# Altium footprint library RayPCB20210502.PcbLib: 231 footprints (part 15 of 15)
Each footprint in its own frame and in the unit in brackets; x right, y up, seen from the top. Pads: shape width x height; smd on the part's side, far side on the other; paste and mask are expansions set on the pad; w line width, h text height; cw(c..) or ccw(c..) is an arc to the next point about the centre after c.
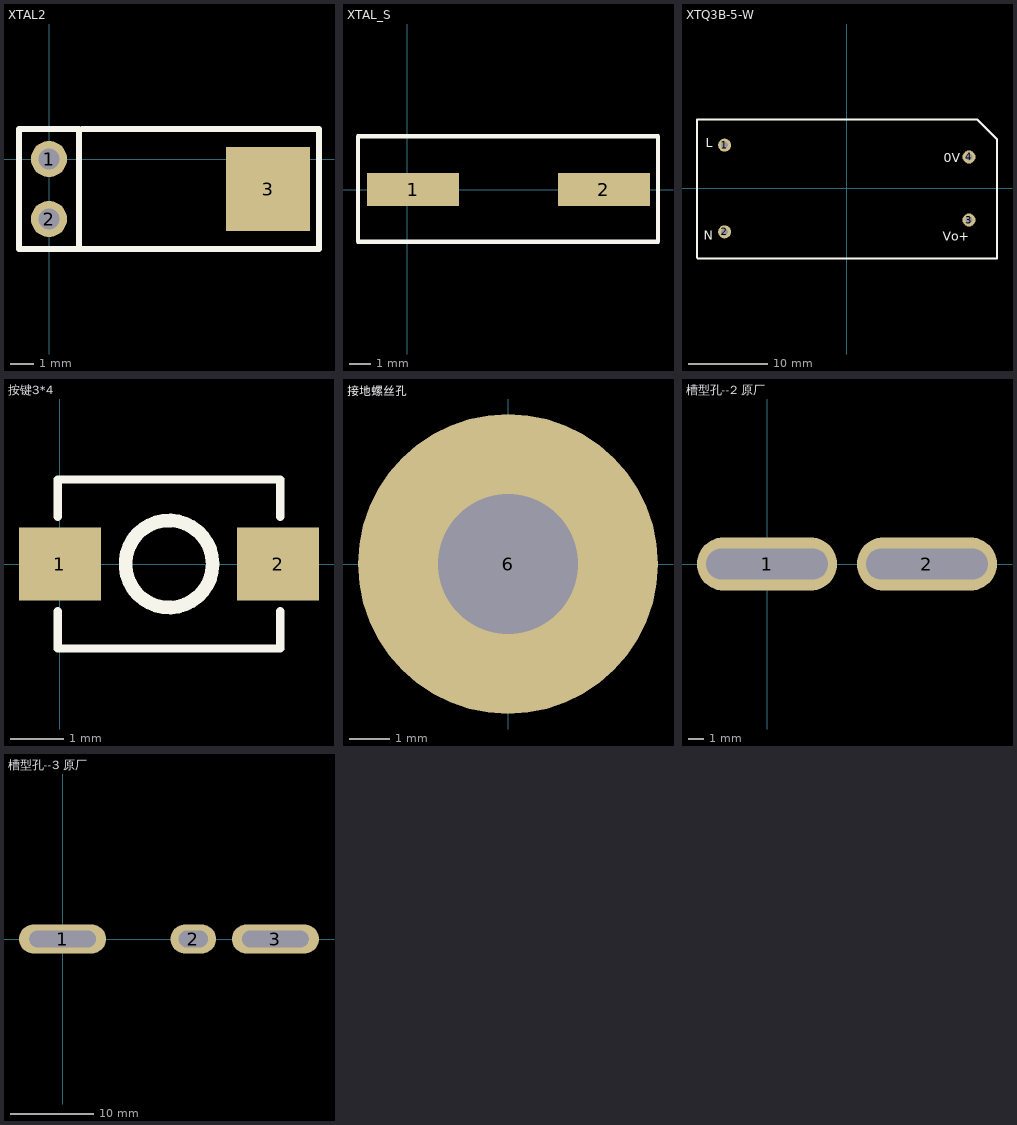
[diagram p14: the footprints below, top view; thin cyan lines are the x and y axes]

## XTAL2 [mil] "32.768KHZ CRYSTAL"
pads (3):
  round 60 hole 35: 1(0,0) 2(0,-100)
  rect 140x140 smd: 3(365,-50)
Top Overlay:
  lines w10: 55,50 450,50 450,-150 50,-150 ; 50,-150 -50,-150 -50,50 50,50 50,-150

## XTAL_S [mm]
pads (2):
  rect 4.2x1.524 smd: 1(0.26,0) 2(8.97,0)
Top Overlay:
  lines w0.203: -2.257,-2.388 -2.257,2.438 11.443,2.438 11.443,-2.388 -2.257,-2.388

## XTQ3B-5-W [mil] "AC_DCXTQ3B-5-W"
pads (4):
  round 65 hole 35: 1(-610.24,216.54) 2(-610.24,-216.54) 3(610.24,-157.48) 4(610.24,157.48)
Top Overlay:
  lines w10: -748.03,-344.49 -748.03,344.49 650.51,344.49 750,245 ; -745,-350 750,-350 750,245 ; 640,345 650,345 750,245
  text "0V" at 485,130 h45
  text "Vo+" at 480,-260 h45
  text "N" at -715,-255 h45
  text "L" at -705,205 h45

## 按键3*4 [mm]
pads (2):
  rect 1.53x1.36 smd: 1(0,0) 2(4.07,0)
Top Overlay:
  circle w0.254: c2.035,0 r0.813
  lines w0.152: -0.041,-0.883 -0.041,-1.576 4.111,-1.576 4.111,-0.883 ; -0.041,0.883 -0.041,1.576 4.111,1.576 4.111,0.883
Mechanical 15:
  lines w0.003: 3.432,0.127 3.432,0.127

## 接地螺丝孔 [mm]
pads (1):
  round 7.5 hole 3.5: 6(0,0)

## 槽型孔--2 原厂 [mm]
pads (2):
  oval 9.2x3.5 hole 2 slot 8 at 0 deg paste+0: 1(0,0) 2(10.5,0)

## 槽型孔--3 原厂 [mm]
pads (3):
  oval 10.5x3.5 hole 2 slot 8 at 0 deg paste+0: 1(0,0) 3(25.634,0)
  oval 5.5x3.5 hole 2 slot 3.5 at 0 deg paste+0: 2(15.748,0)